# EAGLE library part 57-00013QL11-1 (library WIZnet)
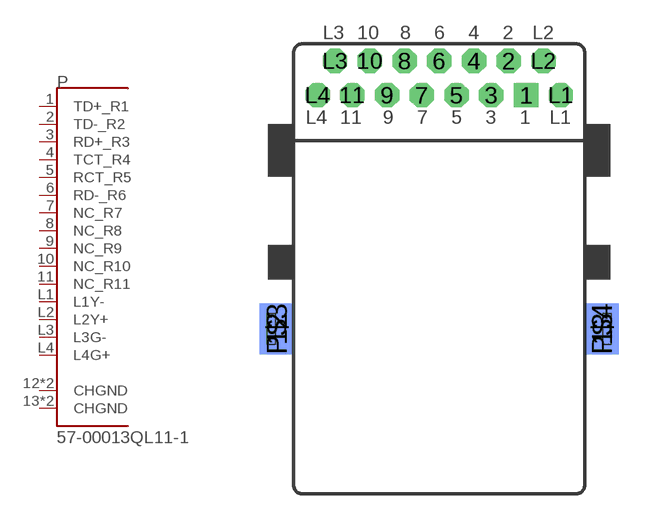
[diagram p12: symbol with the pads of 57-00013QL11-1; footprint 57-00013QL11-1]

Designator prefix P

## 57-00013QL11-1  [57-00013QL11-1]
1  TD+_R1
2  TD-_R2
3  RD+_R3
4  TCT_R4
5  RCT_R5
6  RD-_R6
7  NC_R7
8  NC_R8
9  NC_R9
10  NC_R10
11  NC_R11
12  CHGND
13  CHGND
L1  L1Y-
L2  L2Y+
L3  L3G-
L4  L4G+
P$3  CHGND
P$4  CHGND

## Footprint 57-00013QL11-1 (pad centres in mm)
drill 0.914 square: 1 5.075,10.15
drill 0.914 octagon: 2 4.065,12.15; 3 3.045,10.15; 4 2.035,12.15; 5 1.015,10.15; 6 0.005,12.15; 7 -1.015,10.15; 8 -2.025,12.15; 9 -3.045,10.15; 10 -4.055,12.15; 11 -5.075,10.15; L1 7.105,10.15; L2 6.095,12.15; L3 -6.085,12.15; L4 -7.105,10.15
smd 2 x 3: 12 -9.5,-3.51; 13 9.5,-3.51
smd 2 x 3 bottom: P$3 -9.5,-3.51; P$4 9.5,-3.51